# Altium integrated library Connectors.IntLib: 60 symbols
Pins are listed as number, name and electrical type; pins without a type are passive.

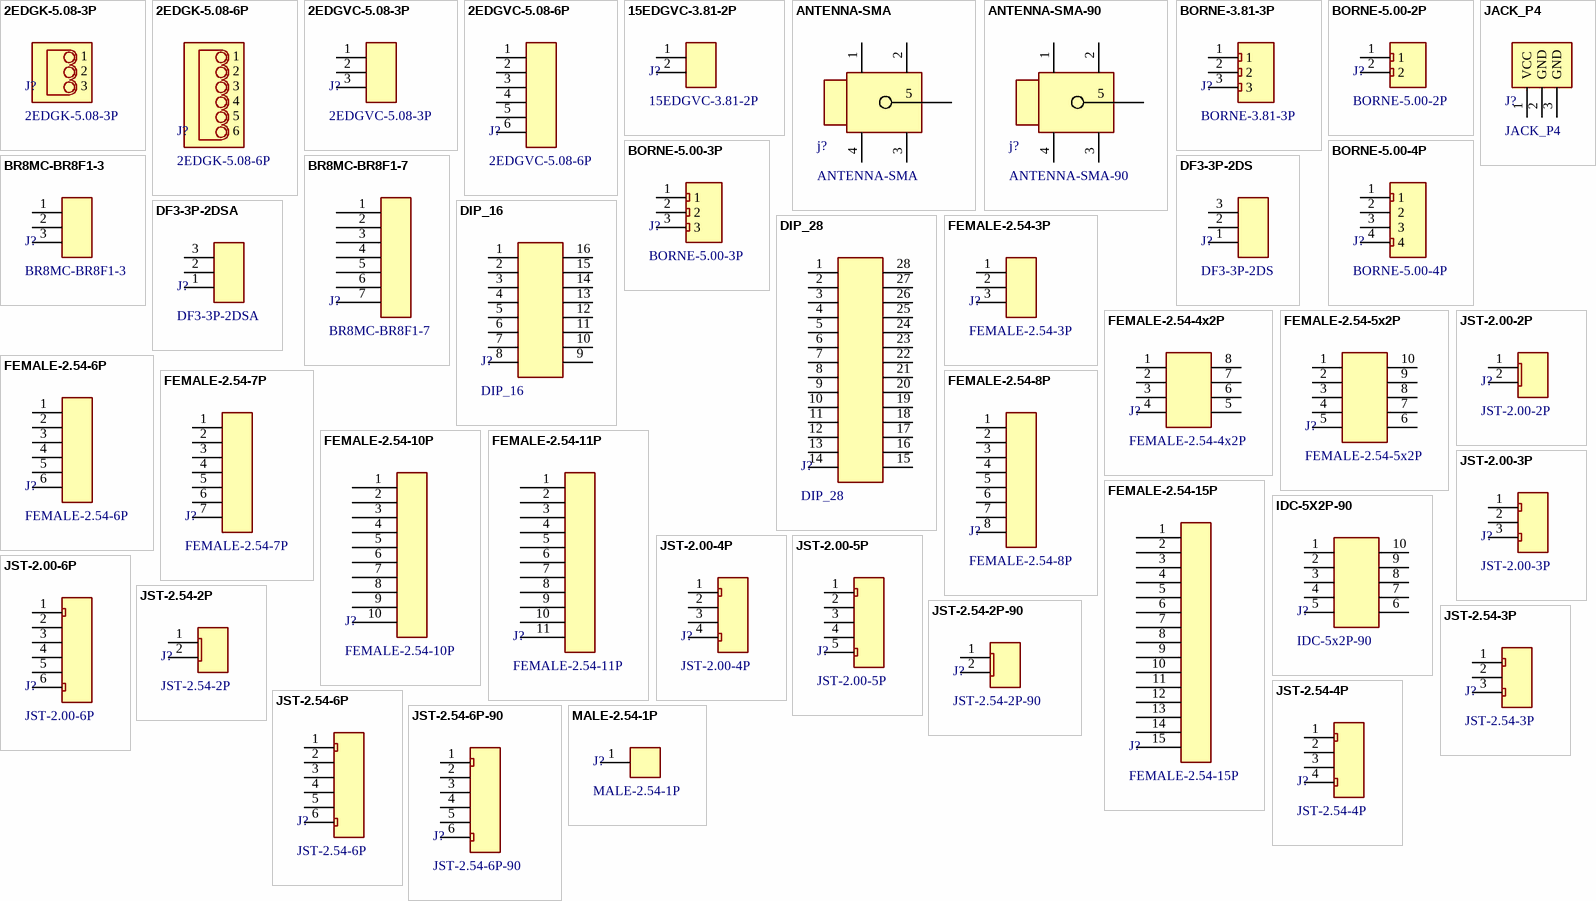
[diagram p0: symbols 2EDGK-5.08-3P to MALE-2.54-1P]

## 2EDGK-5.08-3P
designator J?
Male Connector KF2EDGK-6P, pitch 5.08mm.; JLCPCB PN: C440881
footprint 2EDGK-5.08-3P
text: 1; 2; 3

## 2EDGK-5.08-6P
designator J?
Male Connector KF2EDGK-3P, pitch 5.08mm.; JLCPCB PN: C440884
footprint 2EDGK-5.08-6P
text: 1; 2; 3; 4; 5; 6

## 2EDGVC-5.08-3P
designator J?
Female Connector KF2EDGVC-3P, pitch 5.08mm.; JLCPCB PN: C441387
footprint 2EDGVC-5.08-3P
pins: 1, 2, 3

## 2EDGVC-5.08-6P
designator J?
Female Connector KF2EDGVC-6P, pitch 5.08mm.; JLCPCB PN: C441390
footprint 2EDGVC-5.08-6P
pins: 1, 2, 3, 4, 5, 6

## 15EDGVC-3.81-2P
designator J?
Female Connector 15EDGVC-2P, pitch 3.81mm.; JLCPCB PN: C8396
footprint 15EDGVC-3.81-2P
pins: 1, 2

## ANTENNA-SMA
designator j?
Connector SMA for Antenna.; JLCPCB PN: C504007
footprint ANTENNA-SMA
pins: 1, 2, 3, 4, 5

## ANTENNA-SMA-90
designator j?
Connector SMA for Antenna, 90º.; JLCPCB PN: C914554
footprint ANTENNA-SMA-90
pins: 1, 2, 3, 4, 5

## BORNE-3.81-3P
designator J?
Borne 3 Vias, Pitch 3.81mm.
footprint BORNE-3.81-3P
pins: 1, 2, 3

## BORNE-5.00-2P
designator J?
Borne 2 Vias, Pitch 5mm.; JLCPCB PN: C91153
footprint BORNE-5.00-2P
pins: 1, 2

## BORNE-5.00-3P
designator J?
Borne 3 Vias, Pitch 5mm.; JLCPCB PN: C91154
footprint BORNE-5.00-3P
pins: 1, 2, 3

## BORNE-5.00-4P
designator J?
Borne 4 Vias, Pitch 5mm.; JLCPCB PN: C2915641
footprint BORNE-5.00-4P
pins: 1, 2, 3, 4

## BR8MC-BR8F1-3
designator J?
footprint BR8MC-BR8F1-3
pins: 1, 2, 3

## BR8MC-BR8F1-7
designator J?
footprint BR8MC-BR8F1-7
pins: 1, 2, 3, 4, 5, 6, 7

## DF3-3P-2DS
designator J?
Angled Female Connector 3 Pins, 2mm.; Digikey PN: H2106-ND
footprint DF3-3P-2DS
pins: 1, 2, 3

## DF3-3P-2DSA
designator J?
Right Female Connector 3 Pins, 2mm.; Digikey PN: H3922-ND
footprint DF3-3P-2DSA
pins: 1, 2, 3

## DIP_16
designator J?
Dip 16 Pins; JLCPCB PN: C2874010
footprint DIP_16
pins: 1, 2, 3, 4, 5, 6, 7, 8, 9, 10, 11, 12, 13, 14, 15, 16

## DIP_28
designator J?
Dip 28 Pins; JLCPCB PN: C2874014
footprint DIP_28
pins: 1, 2, 3, 4, 5, 6, 7, 8, 9, 10, 11, 12, 13, 14, 15, 16, 17, 18, 19, 20, 21, 22, 23, 24, 25, 26, 27, 28

## FEMALE-2.54-3P
designator J?
Female Header Connector 2.54mm 3 Pins.; JLCPCB PN: C5116529
footprint FEMALE-2.54-3P
pins: 1, 2, 3

## FEMALE-2.54-4x2P
designator J?
Female Header Connector 2.54mm 4x2 Pins.; JLCPCB PN: C2977588
footprint FEMALE-2.54-4x2P
pins: 1, 2, 3, 4, 5, 6, 7, 8

## FEMALE-2.54-5x2P
designator J?
Female Header Connector 2.54mm 5x2 Pins.; JLCPCB PN: C2977587
footprint FEMALE-2.54-5x2P
pins: 1, 2, 3, 4, 5, 6, 7, 8, 9, 10

## FEMALE-2.54-6P
designator J?
Female Header Connector 2.54mm 6 Pins.; JLCPCB PN: C5224026
footprint FEMALE-2.54-6P
pins: 1, 2, 3, 4, 5, 6

## FEMALE-2.54-7P
designator J?
Female Header Connector 2.54mm 7 Pins.
footprint FEMALE-2.54-7P
pins: 1, 2, 3, 4, 5, 6, 7

## FEMALE-2.54-8P
designator J?
Female Header Connector 2.54mm 8 Pins.; JLCPCB PN: C5224027
footprint FEMALE-2.54-8P
pins: 1, 2, 3, 4, 5, 6, 7, 8

## FEMALE-2.54-10P
designator J?
Female Header Connector 2.54mm 10 Pins.; JLCPCB PN: C2897378
footprint FEMALE-2.54-10P
pins: 1, 2, 3, 4, 5, 6, 7, 8, 9, 10

## FEMALE-2.54-11P
designator J?
Female Header Connector 2.54mm 11 Pins.; JLCPCB PN: C2897378
footprint FEMALE-2.54-11P
pins: 1, 2, 3, 4, 5, 6, 7, 8, 9, 10, 11

## FEMALE-2.54-15P
designator J?
Female Header Connector 2.54mm 15 Pins.; JLCPCB PN: C2897378
footprint FEMALE-2.54-15P
pins: 1, 2, 3, 4, 5, 6, 7, 8, 9, 10, 11, 12, 13, 14, 15

## IDC-5X2P-90
designator J?, comment IDC-5x2P-90
IDC Connector 5X2P, 90º; JLCPCB PN: C492448
footprint IDC-5X2P-90
pins: 1, 2, 3, 4, 5, 6, 7, 8, 9, 10

## JACK_P4
designator J?
9V Battery Connector Jack P4.
footprint JACK_P4
pins: 1 VCC, 2 GND, 3 GND

## JST-2.00-2P
designator J?
Female Connector JST 2 Vias, 2.00mm.; JLCPCB PN: C5175230
footprint JST-2.00-2P
pins: 1, 2

## JST-2.00-3P
designator J?
Female Connector JST 3 Vias, 2.00mm.; JLCPCB PN: C5175231
footprint JST-2.00-3P
pins: 1, 2, 3

## JST-2.00-4P
designator J?
Female Connector JST 4 Vias, 2.00mm.; JLCPCB PN: C5175232
footprint JST-2.00-4P
pins: 1, 2, 3, 4

## JST-2.00-5P
designator J?
Female Connector JST 5 Vias, 2.00mm.; JLCPCB PN: C5175233
footprint JST-2.00-5P
pins: 1, 2, 3, 4, 5

## JST-2.00-6P
designator J?
Female Connector JST 6 Vias, 2.00mm.; JLCPCB PN: C5175234
footprint JST-2.00-6P
pins: 1, 2, 3, 4, 5, 6

## JST-2.54-2P
designator J?
Female Connector JST 2 Vias, 2.54mm.
footprint JST-2.54-2P
pins: 1, 2

## JST-2.54-2P-90
designator J?
Female Connector JST 2 Vias, 2.54mm 90º.
footprint JST-2.54-2P-90
pins: 1, 2

## JST-2.54-3P
designator J?
Female Connector JST 3 Vias, 2.54mm.
footprint JST-2.54-3P
pins: 1, 2, 3

## JST-2.54-4P
designator J?
Female Connector JST 4 Vias, 2.54mm.
footprint JST-2.54-4P
pins: 1, 2, 3, 4

## JST-2.54-6P
designator J?
Female Connector JST 6 Vias, 2.54mm.
footprint JST-2.54-6P
pins: 1, 2, 3, 4, 5, 6

## JST-2.54-6P-90
designator J?
Female Connector JST 6 Vias, 2.54mm 90º.
footprint JST-2.54-6P-90
pins: 1, 2, 3, 4, 5, 6

## MALE-2.54-1P
designator J?
Male Header Connector 2.54mm 1 Pins.; JLCPCB PN: C492400
footprint MALE-2.54-1P
pins: 1

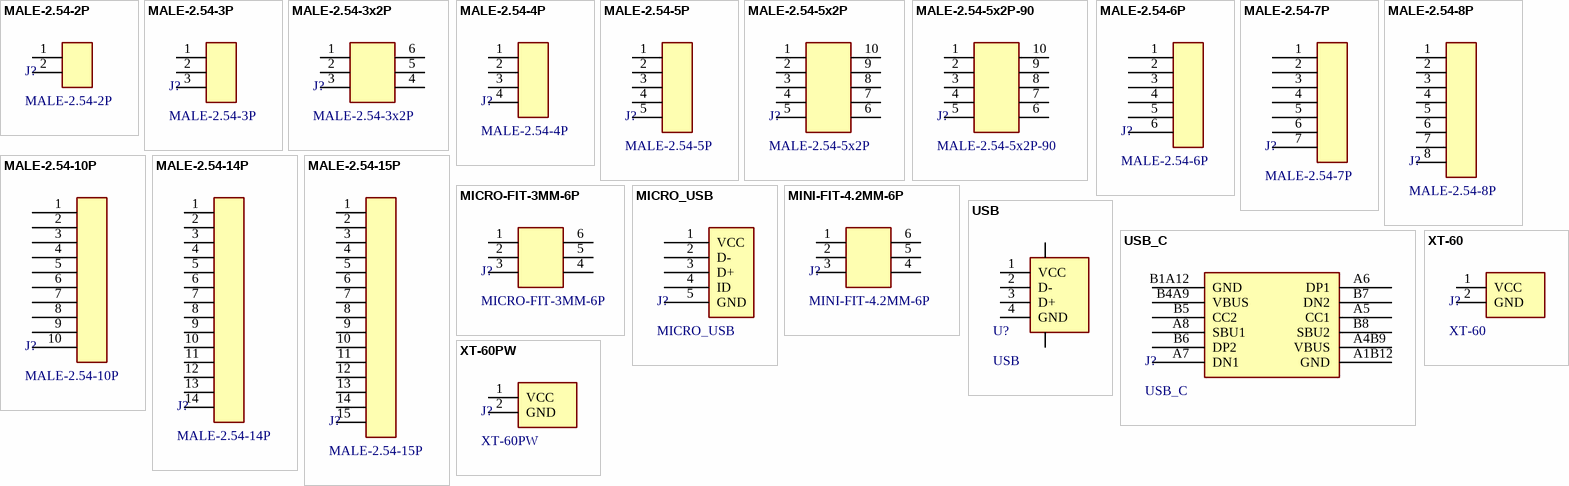
[diagram p1: symbols MALE-2.54-2P to XT-60PW]

## MALE-2.54-2P
designator J?
Male Header Connector 2.54mm 2 Pins.; JLCPCB PN: C492401
footprint MALE-2.54-2P
pins: 1, 2

## MALE-2.54-3P
designator J?
Male Header Connector 2.54mm 3 Pins.; JLCPCB PN: C492402
footprint MALE-2.54-3P
pins: 1, 2, 3

## MALE-2.54-3x2P
designator J?
Male Header Connector 2.54mm 3x2 Pins.; JLCPCB PN: C65114
footprint MALE-2.54-3x2P
pins: 1, 2, 3, 4, 5, 6

## MALE-2.54-4P
designator J?
Male Header Connector 2.54mm 4 Pins.; JLCPCB PN: C492403
footprint MALE-2.54-4P
pins: 1, 2, 3, 4

## MALE-2.54-5P
designator J?
Male Header Connector 2.54mm 5 Pins.; JLCPCB PN: C492404
footprint MALE-2.54-5P
pins: 1, 2, 3, 4, 5

## MALE-2.54-5x2P
designator J?
Male Header Connector 2.54mm 5x2 Pins.; JLCPCB PN: C492422
footprint MALE-2.54-5x2P
pins: 1, 2, 3, 4, 5, 6, 7, 8, 9, 10

## MALE-2.54-5x2P-90
designator J?
Male Header Angled Connector 2.54mm 5X2 Pins.; JLCPCB PN: C492433
footprint MALE-2.54-5x2P-90
pins: 1, 2, 3, 4, 5, 6, 7, 8, 9, 10

## MALE-2.54-6P
designator J?
Male Header Connector 2.54mm 6 Pins.; JLCPCB PN: C492405
footprint MALE-2.54-6P
footprint MALE-2.54-6P-90
pins: 1, 2, 3, 4, 5, 6

## MALE-2.54-7P
designator J?
Male Header Connector 2.54mm 7 Pins.
footprint MALE-2.54-7P
footprint MALE-2.54-7P-90
pins: 1, 2, 3, 4, 5, 6, 7

## MALE-2.54-8P
designator J?
Male Header Connector 2.54mm 8 Pins.; JLCPCB  PN: C492407
footprint MALE-2.54-8P
footprint MALE-2.54-8P-90
pins: 1, 2, 3, 4, 5, 6, 7, 8

## MALE-2.54-10P
designator J?
Male Header Connector 2.54mm 10 Pins.; JLCPCB PN: C492409
footprint MALE-2.54-10P
footprint MALE-2.54-10P-90
pins: 1, 2, 3, 4, 5, 6, 7, 8, 9, 10

## MALE-2.54-14P
designator J?
Male Header Connector 2.54mm 14 Pins.
footprint MALE-2.54-14P
pins: 1, 2, 3, 4, 5, 6, 7, 8, 9, 10, 11, 12, 13, 14

## MALE-2.54-15P
designator J?
Male Header Connector 2.54mm 15 Pins.
footprint MALE-2.54-15P
pins: 1, 2, 3, 4, 5, 6, 7, 8, 9, 10, 11, 12, 13, 14, 15

## MICRO-FIT-3MM-6P
designator J?
footprint MICRO-FIT-3MM-6P
pins: 1, 2, 3, 4, 5, 6

## MICRO_USB
designator J?
MICRO USB Connector SMD.; JLCPCB PN: C145792
footprint MICRO_USB
pins: 1 VCC, 2 D-, 3 D+, 4 ID, 5 GND

## MINI-FIT-4.2MM-6P
designator J?
footprint MINI-FIT-4.2MM-6P
pins: 1, 2, 3, 4, 5, 6

## USB
designator U?
footprint USB
pins: 1 VCC, 2 D-, 3 D+, 4 GND

## USB_C
designator J?
3A USB Type C SMD 16 Pins; JLCPCB PN: C2927037
footprint USB_C
pins: A1B12 GND, A4B9 VBUS, A5 CC1, A6 DP1, A7 DN1, A8 SBU1, B1A12 GND, B4A9 VBUS, B5 CC2, B6 DP2, B7 DN2, B8 SBU2

## XT-60
designator J?
Power Connector XT-60, Male and Female.; JLCPCB PN F: C98734; JLCPCB PN M: C98733
footprint XT-60-Male
footprint XT-60-Female
pins: 1 VCC, 2 GND

## XT-60PW
designator J?
Power Connector XT-60PW, Male and Female.; JLCPCB PN F: C9900000737; JLCPCB PN M: C98732
footprint XT-60PW-Female
footprint XT-60PW-Male
pins: 1 VCC, 2 GND